# EAGLE library part SN74LVCH16244ADGRR (library Cynara-IntegratedCircuits)
16 Bit Tri state buffer
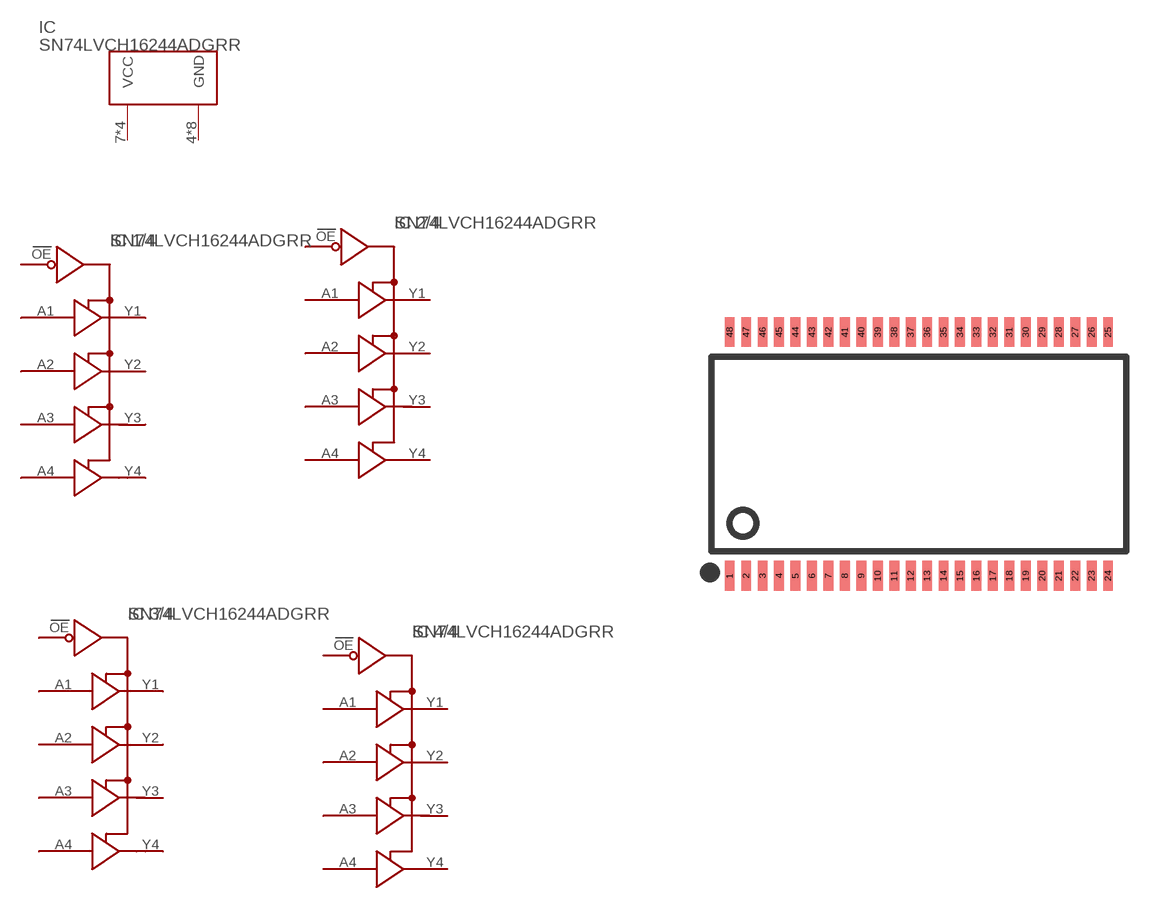
[diagram p4: symbol with the pads of TSOP48_DGG; footprint TSOP48_DGG]

Designator prefix IC; gates  =POWER  1/4=TRI_STATE_BUFFER  2/4=TRI_STATE_BUFFER  3/4=TRI_STATE_BUFFER  4/4=TRI_STATE_BUFFER

## SN74LVCH16244ADGRR-TSOP48 (ARTIKEL: S16-buf; BEHUIZING: TSOP48; I: A; U: 3,3V; WAARDE: SN74LVCH16244AD)  [TSOP48_DGG]
1   1/4:OE
2   1/4:Y1
3   1/4:Y2
4   :GND  pwr
5   1/4:Y3
6   1/4:Y4
7   :VCC  pwr
8   2/4:Y1
9   2/4:Y2
10   :GND  pwr
11   2/4:Y3
12   2/4:Y4
13   3/4:Y1
14   3/4:Y2
15   :GND  pwr
16   3/4:Y3
17   3/4:Y4
18   :VCC  pwr
19   4/4:Y1
20   4/4:Y2
21   :GND  pwr
22   4/4:Y3
23   4/4:Y4
24   4/4:OE
25   3/4:OE
26   4/4:A4
27   4/4:A3
28   :GND  pwr
29   4/4:A2
30   4/4:A1
31   :VCC  pwr
32   3/4:A4
33   3/4:A3
34   :GND  pwr
35   3/4:A2
36   3/4:A1
37   2/4:A4
38   2/4:A3
39   :GND  pwr
40   2/4:A2
41   2/4:A1
42   :VCC  pwr
43   1/4:A4
44   1/4:A3
45   :GND  pwr
46   1/4:A2
47   1/4:A1
48   2/4:OE

## Footprint TSOP48_DGG (pad centres in mm)
smd 0.3 x 0.9: 1 -5.75,-3.7; 2 -5.25,-3.7; 3 -4.75,-3.7; 4 -4.25,-3.7; 5 -3.75,-3.7; 6 -3.25,-3.7; 7 -2.75,-3.7; 8 -2.25,-3.7; 9 -1.75,-3.7; 10 -1.25,-3.7; 11 -0.75,-3.7; 12 -0.25,-3.7; 13 0.25,-3.7; 14 0.75,-3.7; 15 1.25,-3.7; 16 1.75,-3.7; 17 2.25,-3.7; 18 2.75,-3.7; 19 3.25,-3.7; 20 3.75,-3.7; 21 4.25,-3.7; 22 4.75,-3.7; 23 5.25,-3.7; 24 5.75,-3.7; 25 5.75,3.7; 26 5.25,3.7; 27 4.75,3.7; 28 4.25,3.7; 29 3.75,3.7; 30 3.25,3.7; 31 2.75,3.7; 32 2.25,3.7; 33 1.75,3.7; 34 1.25,3.7; 35 0.75,3.7; 36 0.25,3.7; 37 -0.25,3.7; 38 -0.75,3.7; 39 -1.25,3.7; 40 -1.75,3.7; 41 -2.25,3.7; 42 -2.75,3.7; 43 -3.25,3.7; 44 -3.75,3.7; 45 -4.25,3.7; 46 -4.75,3.7; 47 -5.25,3.7; 48 -5.75,3.7